# Altium schematic symbol library conn_power_terminalB.SchLib: 30 symbols
Pins are listed as number, name and electrical type; pins without a type are passive.

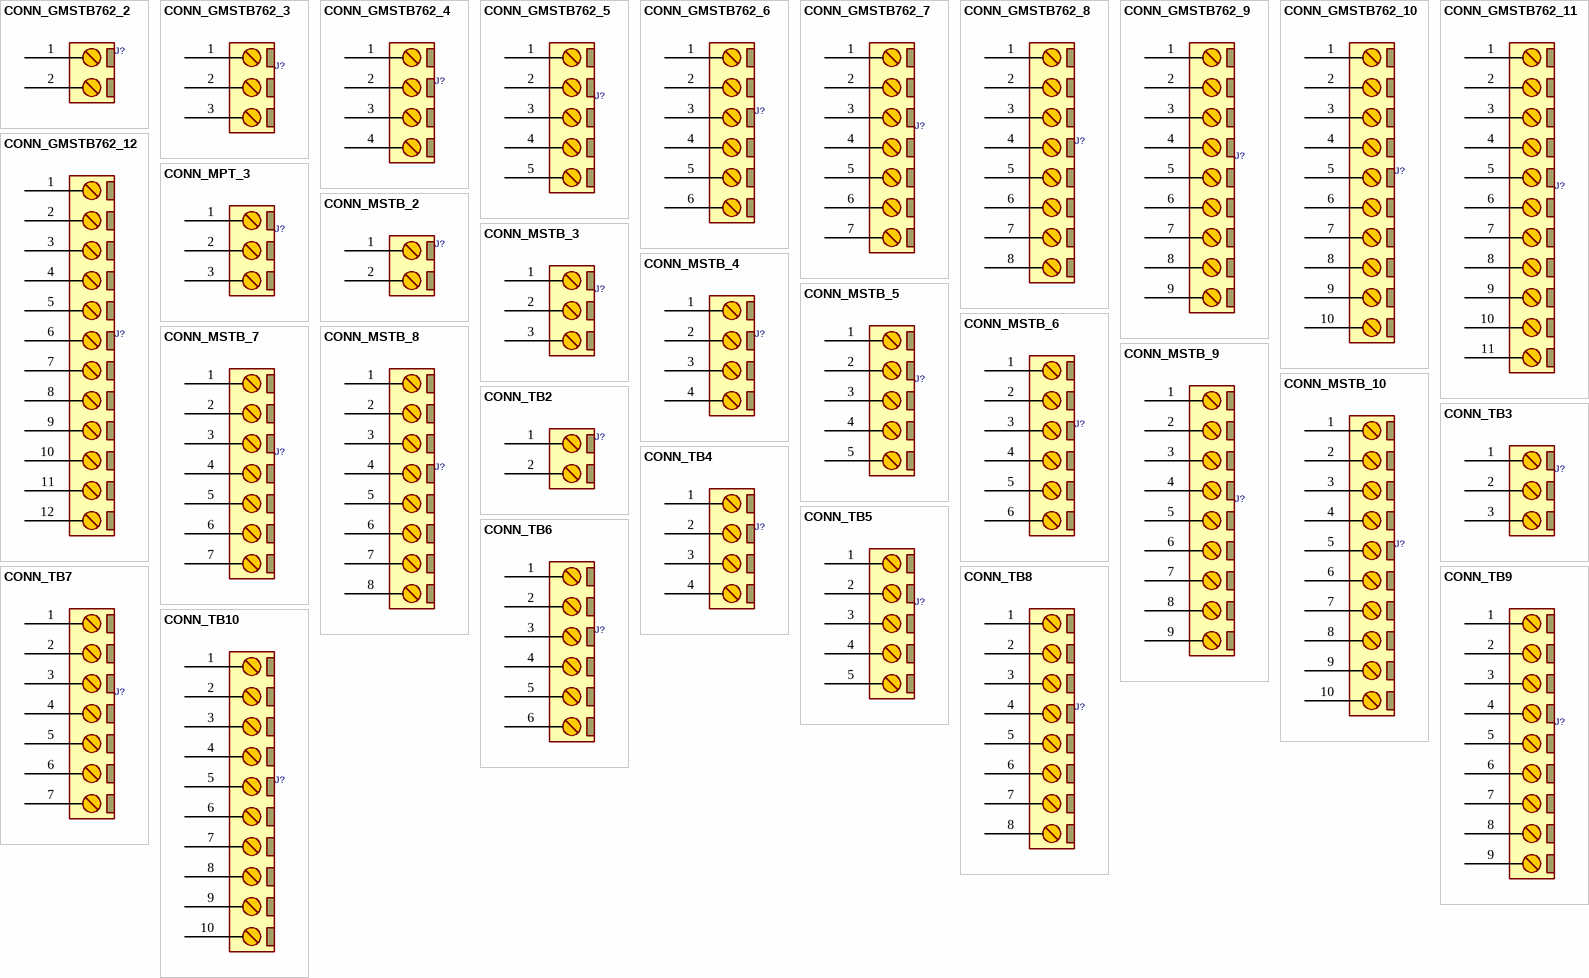
[diagram p0: symbols CONN_GMSTB762_2 to CONN_TB10]

## CONN_GMSTB762_2
designator J?, comment CONN_GMSTB2  (value not drawn)
CONN, PHOENIX GMSTB, 7.62mm pitch; MANF_P#: GMSTB 2,5/2-G-7,62; PARAM2: 630V; PARAM: 12A; VALUE: CONN_GMSTB2
footprint GMSTB762_2 (PHOENIX, GMSTB 2,5/2-G-7,62, 7.62mm pitch, 2pin)
pins: 1, 2

## CONN_GMSTB762_3
designator J?, comment CONN_GMSTB3  (value not drawn)
CONN, PHOENIX MSTB, 5-G, 5.08mm pitch; MANF_P#: GMSTB 2,5/3-G-7,62; PARAM2: 630V; PARAM: 12A; VALUE: CONN_GMSTB3
footprint GMSTB762_3 (PHOENIX, GMSTB 2,5/3-G-7,62, 7.62mm pitch, 3pin)
pins: 1, 2, 3

## CONN_GMSTB762_4
designator J?, comment CONN_GMSTB4  (value not drawn)
CONN, PHOENIX MSTB, 5-G, 5.08mm pitch; MANF_P#: GMSTB 2,5/4-G-7,62; PARAM2: 630V; PARAM: 12A; VALUE: CONN_GMSTB4
footprint GMSTB762_4 (PHOENIX, GMSTB 2,5/4-G-7,62, 7.62mm pitch, 4pin)
pins: 1, 2, 3, 4

## CONN_GMSTB762_5
designator J?, comment CONN_GMSTB5  (value not drawn)
CONN, PHOENIX MSTB, 5-G, 5.08mm pitch; MANF_P#: GMSTB 2,5/5-G-7,62; PARAM2: 630V; PARAM: 12A; VALUE: CONN_GMSTB5
footprint GMSTB762_5 (PHOENIX, GMSTB 2,5/5-G-7,62, 7.62mm pitch, 5pin)
pins: 1, 2, 3, 4, 5

## CONN_GMSTB762_6
designator J?, comment CONN_GMSTB6  (value not drawn)
CONN, PHOENIX MSTB, 5-G, 5.08mm pitch; MANF_P#: GMSTB 2,5/6-G-7,62; PARAM2: 630V; PARAM: 12A; VALUE: CONN_GMSTB6
footprint GMSTB762_6 (PHOENIX, GMSTB 2,5/6-G-7,62, 7.62mm pitch, 6pin)
pins: 1, 2, 3, 4, 5, 6

## CONN_GMSTB762_7
designator J?, comment CONN_GMSTB7  (value not drawn)
CONN, PHOENIX MSTB, 5-G, 5.08mm pitch; MANF_P#: GMSTB 2,5/7-G-7,62; PARAM2: 630V; PARAM: 12A; VALUE: CONN_GMSTB7
footprint GMSTB762_7 (PHOENIX, GMSTB 2,5/7-G-7,62, 7.62mm pitch, 7pin)
pins: 1, 2, 3, 4, 5, 6, 7

## CONN_GMSTB762_8
designator J?, comment CONN_GMSTB8  (value not drawn)
CONN, PHOENIX MSTB, 5-G, 5.08mm pitch; MANF_P#: GMSTB 2,5/8-G-7,62; PARAM2: 630V; PARAM: 12A; VALUE: CONN_GMSTB8
footprint GMSTB762_8 (PHOENIX, GMSTB 2,5/8-G-7,62, 7.62mm pitch, 8pin)
pins: 1, 2, 3, 4, 5, 6, 7, 8

## CONN_GMSTB762_9
designator J?, comment CONN_GMSTB9  (value not drawn)
CONN, PHOENIX MSTB, 5-G, 5.08mm pitch; MANF_P#: GMSTB 2,5/9-G-7,62; PARAM2: 630V; PARAM: 12A; VALUE: CONN_GMSTB9
footprint GMSTB762_9 (PHOENIX, GMSTB 2,5/9-G-7,62, 7.62mm pitch, 9pin)
pins: 1, 2, 3, 4, 5, 6, 7, 8, 9

## CONN_GMSTB762_10
designator J?, comment CONN_GMSTB10  (value not drawn)
CONN, PHOENIX MSTB, 5-G, 5.08mm pitch; MANF_P#: GMSTB 2,5/10-G-7,62; PARAM2: 630V; PARAM: 12A; VALUE: CONN_GMSTB10
footprint GMSTB762_10 (PHOENIX, GMSTB 2,5/10-G-7,62, 7.62mm pitch, 10pin)
pins: 1, 2, 3, 4, 5, 6, 7, 8, 9, 10

## CONN_GMSTB762_11
designator J?, comment CONN_GMSTB11  (value not drawn)
CONN, PHOENIX MSTB, 5-G, 5.08mm pitch; MANF_P#: GMSTB 2,5/11-G-7,62; PARAM2: 630V; PARAM: 12A; VALUE: CONN_GMSTB11
footprint GMSTB762_11 (PHOENIX, GMSTB 2,5/11-G-7,62, 7.62mm pitch, 11pin)
pins: 1, 2, 3, 4, 5, 6, 7, 8, 9, 10, 11

## CONN_GMSTB762_12
designator J?, comment CONN_GMSTB12  (value not drawn)
CONN, PHOENIX MSTB, 5-G, 5.08mm pitch; MANF_P#: GMSTB 2,5/12-G-7,62; PARAM2: 630V; PARAM: 12A; VALUE: CONN_GMSTB12
footprint GMSTB762_12 (PHOENIX, GMSTB 2,5/12-G-7,62, 7.62mm pitch, 12pin)
pins: 1, 2, 3, 4, 5, 6, 7, 8, 9, 10, 11, 12

## CONN_MPT_3
designator J?, comment CONN_TB2  (value not drawn)
CONN, PHOENIX MPT, 2.54mm pitch; MANF_P#: 1725669; PARAM2: 160V; PARAM: 6A; VALUE: CONN_TB2; MANF: Phoenix; PRICE: 2.4$
footprint MPT_3 (PHOENIX MPT, 2.54mm pitch, 3pin)
pins: 1, 2, 3

## CONN_MSTB_2
designator J?, comment CONN_TB2  (value not drawn)
CONN, PHOENIX MSTB, 5-G, 5.08mm pitch; PARAM2: 320V; PARAM: 12A; VALUE: CONN_TB2
footprint MSTB_2 (PHOENIX MSTB 2, 5-G, 5.08mm pitch, 2pin)
pins: 1, 2

## CONN_MSTB_3
designator J?, comment CONN_TB3  (value not drawn)
CONN, PHOENIX MSTB, 5-G, 5.08mm pitch; PARAM2: 320V; PARAM: 12A; VALUE: CONN_TB3
footprint MSTB_3 (PHOENIX MSTB 2, 5-G, 5.08mm pitch, 3pin)
pins: 1, 2, 3

## CONN_MSTB_4
designator J?, comment CONN_TB4  (value not drawn)
CONN, PHOENIX MSTB, 5-G, 5.08mm pitch; PARAM2: 320V; PARAM: 12A; VALUE: CONN_TB4
footprint MSTB_4 (PHOENIX MSTB 2, 5-G, 5.08mm pitch)
pins: 1, 2, 3, 4

## CONN_MSTB_5
designator J?, comment CONN_TB5  (value not drawn)
CONN, PHOENIX MSTB, 5-G, 5.08mm pitch; PARAM2: 320V; PARAM: 12A; VALUE: CONN_TB5
footprint MSTB_5 (PHOENIX MSTB 2, 5-G, 5.08mm pitch)
pins: 1, 2, 3, 4, 5

## CONN_MSTB_6
designator J?, comment CONN_TB6  (value not drawn)
CONN, PHOENIX MSTB, 5-G, 5.08mm pitch; PARAM2: 320V; PARAM: 12A; VALUE: CONN_TB6
footprint MSTB_6 (PHOENIX MSTB 2, 5-G, 5.08mm pitch)
pins: 1, 2, 3, 4, 5, 6

## CONN_MSTB_7
designator J?, comment CONN_TB7  (value not drawn)
CONN, PHOENIX MSTB, 5-G, 5.08mm pitch; PARAM2: 320V; PARAM: 12A; VALUE: CONN_TB7
footprint MSTB_7 (PHOENIX MSTB 2, 5-G, 5.08mm pitch)
pins: 1, 2, 3, 4, 5, 6, 7

## CONN_MSTB_8
designator J?, comment CONN_TB8  (value not drawn)
CONN, PHOENIX MSTB, 5-G, 5.08mm pitch; PARAM2: 320V; PARAM: 12A; VALUE: CONN_TB8
footprint MSTB_8 (PHOENIX MSTB 2, 5-G, 5.08mm pitch)
pins: 1, 2, 3, 4, 5, 6, 7, 8

## CONN_MSTB_9
designator J?, comment CONN_TB9  (value not drawn)
CONN, PHOENIX MSTB, 5-G, 5.08mm pitch; PARAM2: 320V; PARAM: 12A; VALUE: CONN_TB9
footprint MSTB_9 (PHOENIX MSTB 2, 5-G, 5.08mm pitch)
pins: 1, 2, 3, 4, 5, 6, 7, 8, 9

## CONN_MSTB_10
designator J?, comment CONN_TB10  (value not drawn)
CONN, PHOENIX MSTB, 5-G, 5.08mm pitch; PARAM2: 320V; PARAM: 12A; VALUE: CONN_TB10
footprint MSTB_10 (PHOENIX MSTB 2, 5-G, 5.08mm pitch)
pins: 1, 2, 3, 4, 5, 6, 7, 8, 9, 10

## CONN_TB2
designator J?  (value not drawn)
CONN, TERMINAL BLOCK, 5.08mm pitch; VALUE: CONN_TB2
footprint TBG_2 (Terminal Block Green)
footprint TBB_2 (Terminal Block Blue)
pins: 1, 2

## CONN_TB3
designator J?  (value not drawn)
CONN, TERMINAL BLOCK, 5.08mm pitch; VALUE: CONN_TB3
footprint TBG_3 (Terminal Block Green)
footprint TBB_3 (Terminal Block Blue)
pins: 1, 2, 3

## CONN_TB4
designator J?  (value not drawn)
CONN, TERMINAL BLOCK, 5.08mm pitch; VALUE: CONN_TB4
footprint TBG_4 (Terminal Block Green)
footprint TBB_4 (Terminal Block Blue)
pins: 1, 2, 3, 4

## CONN_TB5
designator J?  (value not drawn)
CONN, TERMINAL BLOCK, 5.08mm pitch; VALUE: CONN_TB5
footprint TBG_5 (Terminal Block Green)
footprint TBB_5 (Terminal Block Blue)
pins: 1, 2, 3, 4, 5

## CONN_TB6
designator J?  (value not drawn)
CONN, TERMINAL BLOCK, 5.08mm pitch; VALUE: CONN_TB6
footprint TBG_6 (Terminal Block Green)
footprint TBB_6 (Terminal Block Blue)
pins: 1, 2, 3, 4, 5, 6

## CONN_TB7
designator J?  (value not drawn)
CONN, TERMINAL BLOCK, 5.08mm pitch; VALUE: CONN_TB7
footprint TBG_7 (Terminal Block Green)
footprint TBB_7 (Terminal Block Blue)
pins: 1, 2, 3, 4, 5, 6, 7

## CONN_TB8
designator J?  (value not drawn)
CONN, TERMINAL BLOCK, 5.08mm pitch; VALUE: CONN_TB8
footprint TBG_8 (Terminal Block Green)
footprint TBB_8 (Terminal Block Blue)
pins: 1, 2, 3, 4, 5, 6, 7, 8

## CONN_TB9
designator J?  (value not drawn)
CONN, TERMINAL BLOCK, 5.08mm pitch; VALUE: CONN_TB9
footprint TBG_9 (Terminal Block Green)
footprint TBB_9 (Terminal Block Blue)
pins: 1, 2, 3, 4, 5, 6, 7, 8, 9

## CONN_TB10
designator J?  (value not drawn)
CONN, TERMINAL BLOCK, 5.08mm pitch; VALUE: CONN_TB10
footprint TBG_10 (Terminal Block Green)
footprint TBB_10 (Terminal Block Blue)
pins: 1, 2, 3, 4, 5, 6, 7, 8, 9, 10